# Altium footprint library Intrefaces.PcbLib: 9 footprints
Each footprint in its own frame and in the unit in brackets; x right, y up, seen from the top. Pads: shape width x height; smd on the part's side, far side on the other; paste and mask are expansions set on the pad; w line width, h text height; cw(c..) or ccw(c..) is an arc to the next point about the centre after c.
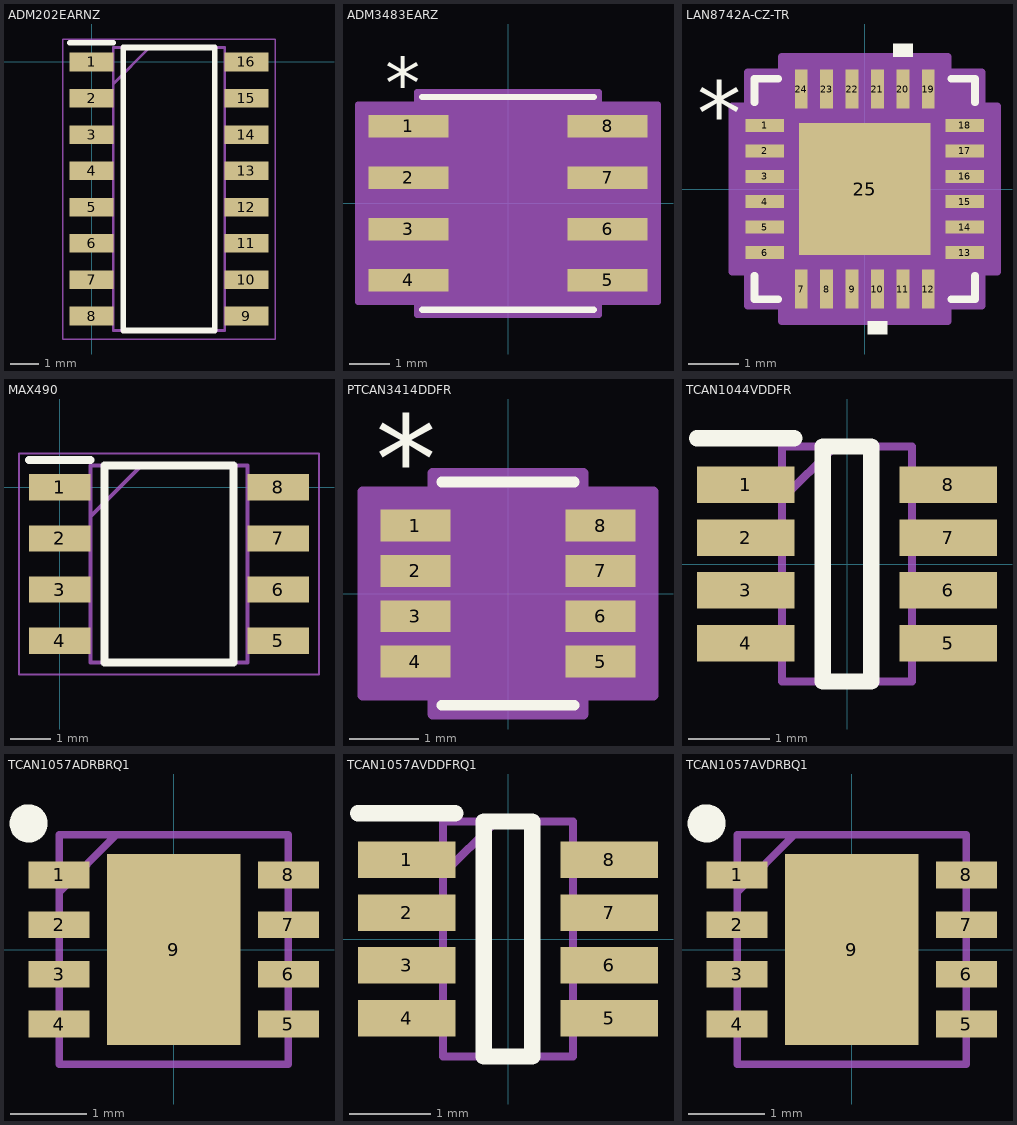
[diagram p0: the footprints below, top view; thin cyan lines are the x and y axes]

## ADM202EARNZ [mm]
pads (16):
  rect 1.525x0.65 smd: 1(0,0) 2(0,-1.27) 3(0,-2.54) 4(0,-3.81) 5(0,-5.08) 6(0,-6.35) 7(0,-7.62) 8(0,-8.89) 9(5.424,-8.89) 10(5.424,-7.62) 11(5.424,-6.35) 12(5.424,-5.08) 13(5.424,-3.81) 14(5.424,-2.54) 15(5.424,-1.27) 16(5.424,0)
Top Overlay:
  lines w0.2: -0.763,0.675 0.762,0.675 ; 1.112,-9.395 4.312,-9.395 4.312,0.505 1.112,0.505 1.112,-9.395
Mechanical 13:
  lines w0.1: 0.762,-0.765 2.032,0.505 ; 0.762,-9.395 4.662,-9.395 4.662,0.505 0.762,0.505 0.762,-9.395
Mechanical 15:
  lines w0.05: -1.013,-9.695 6.437,-9.695 6.437,0.805 -1.013,0.805 -1.013,-9.695
3D body "ADM202EARNZ.stp": height 1.75, standoff 0, extent -0.288,-9.395 5.712,0.505

## ADM3483EARZ [mil]
pads (8):
  rect 78x22 smd paste+0 mask+0: 1(-97,75) 2(-97,25) 3(-97,-25) 4(-97,-75) 5(97,-75) 6(97,-25) 7(97,25) 8(97,75)
Top Overlay:
  lines w6: -83.5,-103.5 83.5,-103.5 ; -83.5,103.5 83.5,103.5
  text "*" at -119.5,92 h50
Mechanical 13:
  lines w1: -12,98.5 ccw(c0,98.5) 12,98.5 ; -122,-85 -78.5,-85 -78.5,-65 -122,-65 -122,-85 ; -122,-35 -78.5,-35 -78.5,-15 -122,-15 -122,-35 ; -122,15 -78.5,15 -78.5,35 -122,35 -122,15 ; -122,65 -78.5,65 -78.5,85 -122,85 -122,65 ; -78.5,-98.5 -78.5,98.5 78.5,98.5 78.5,-98.5 -78.5,-98.5 ; 78.5,-85 122,-85 122,-65 78.5,-65 78.5,-85 ; 78.5,-35 122,-35 122,-15 78.5,-15 78.5,-35 ; 78.5,15 122,15 122,35 78.5,35 78.5,15 ; 78.5,65 122,65 122,85 78.5,85 78.5,65
  text "*" at -76,45.5 h50
Mechanical 15:
  region: -88.5,-96 -146,-96 -146,96 -88.5,96 -88.5,108.5 88.5,108.5 88.5,96 146,96 146,-96 88.5,-96 88.5,-108.5 -88.5,-108.5
  lines w6: -146,-96 -88.5,-96 -88.5,-108.5 88.5,-108.5 88.5,-96 146,-96 146,96 88.5,96 88.5,108.5 -88.5,108.5 -88.5,96 -146,96 -146,-96
3D body "R_8_ADI.step": height 69.09, standoff 0, extent -122.01,-98.5 122.01,98.5

## LAN8742A-CZ-TR [mil]
pads (25):
  rect 30x10 smd paste+0 mask+0: 1(-77.5,49.21) 2(-77.5,29.53) 3(-77.5,9.84) 4(-77.5,-9.84) 5(-77.5,-29.53) 6(-77.5,-49.21) 13(77.5,-49.21) 14(77.5,-29.53) 15(77.5,-9.84) 16(77.5,9.84) 17(77.5,29.53) 18(77.5,49.21)
  rect 10x30 smd paste+0 mask+0: 7(-49.21,-77.5) 8(-29.53,-77.5) 9(-9.84,-77.5) 10(9.84,-77.5) 11(29.53,-77.5) 12(49.21,-77.5) 19(49.21,77.5) 20(29.53,77.5) 21(9.84,77.5) 22(-9.84,77.5) 23(-29.53,77.5) 24(-49.21,77.5)
  rect 102x102 smd paste-51 mask+0: 25(0,0)
Top Overlay:
  region: 37.03,102.5 22.03,102.5 22.03,112.5 37.03,112.5
  region: 17.34,-102.5 2.34,-102.5 2.34,-112.5 17.34,-112.5
  lines w6: -85.5,-67.31 -85.5,-85.5 -67.31,-85.5 ; -85.5,67.31 -85.5,85.5 -67.31,85.5 ; 67.31,-85.5 85.5,-85.5 85.5,-67.31 ; 67.31,85.5 85.5,85.5 85.5,67.31
  text "*" at -130,34.06 h50
Top Paste:
  region: 47.06,-3.94 3.94,-3.94 3.94,-47.06 47.06,-47.06
  region: 47.06,47.06 3.94,47.06 3.94,3.94 47.06,3.94
  region: -3.94,-3.94 -47.06,-3.94 -47.06,-47.06 -3.94,-47.06
  region: -3.94,47.06 -47.06,47.06 -47.06,3.94 -3.94,3.94
Mechanical 13:
  lines w1: -80.5,30.5 -30.5,80.5 ; -80.5,-80.5 -80.5,80.5 80.5,80.5 80.5,-80.5 -80.5,-80.5 ; -80.5,-55.21 -80.5,-43.21 -80.5,-55.21 ; -80.5,-35.53 -80.5,-23.53 -80.5,-35.53 ; -80.5,-15.84 -80.5,-3.84 -80.5,-15.84 ; -80.5,3.84 -80.5,15.84 -80.5,3.84 ; -80.5,23.53 -80.5,35.53 -80.5,23.53 ; -80.5,43.21 -80.5,55.21 -80.5,43.21 ; -55.21,-80.5 -43.21,-80.5 -55.21,-80.5 ; -55.21,80.5 -43.21,80.5 -55.21,80.5 ; -35.53,-80.5 -23.53,-80.5 -35.53,-80.5 ; -35.53,80.5 -23.53,80.5 -35.53,80.5 ; -15.84,-80.5 -3.84,-80.5 -15.84,-80.5 ; -15.84,80.5 -3.84,80.5 -15.84,80.5 ; 3.84,-80.5 15.84,-80.5 3.84,-80.5 ; 3.84,80.5 15.84,80.5 3.84,80.5 ; 23.53,-80.5 35.53,-80.5 23.53,-80.5 ; 23.53,80.5 35.53,80.5 23.53,80.5 ; 43.21,-80.5 55.21,-80.5 43.21,-80.5 ; 43.21,80.5 55.21,80.5 43.21,80.5 ; 80.5,-55.21 80.5,-43.21 80.5,-55.21 ; 80.5,-35.53 80.5,-23.53 80.5,-35.53 ; 80.5,-15.84 80.5,-3.84 80.5,-15.84 ; 80.5,3.84 80.5,15.84 80.5,3.84 ; 80.5,23.53 80.5,35.53 80.5,23.53 ; 80.5,43.21 80.5,55.21 80.5,43.21
  text "*" at -75,34.06 h50
Mechanical 15:
  region: -64.21,-90.5 -90.5,-90.5 -90.5,-64.21 -102.5,-64.21 -102.5,64.21 -90.5,64.21 -90.5,90.5 -64.21,90.5 -64.21,102.5 64.21,102.5 64.21,90.5 90.5,90.5 90.5,64.21 102.5,64.21 102.5,-64.21 90.5,-64.21 90.5,-90.5 64.21,-90.5 64.21,-102.5 -64.21,-102.5
  lines w6: -102.5,-64.21 -102.5,64.21 -90.5,64.21 -90.5,90.5 -64.21,90.5 -64.21,102.5 64.21,102.5 64.21,90.5 90.5,90.5 90.5,64.21 102.5,64.21 102.5,-64.21 90.5,-64.21 90.5,-90.5 64.21,-90.5 64.21,-102.5 -64.21,-102.5 -64.21,-90.5 -90.5,-90.5 -90.5,-64.21 -102.5,-64.21
3D body "SQFN24_4X4MC_MCH.step": height 65.12, standoff 0, extent -80.51,-80.51 80.51,80.51

## MAX490 [mm]
pads (8):
  rect 1.525x0.65 smd: 1(0,0) 2(0,-1.27) 3(0,-2.54) 4(0,-3.81) 5(5.424,-3.81) 6(5.424,-2.54) 7(5.424,-1.27) 8(5.424,0)
Top Overlay:
  lines w0.2: -0.763,0.675 0.762,0.675 ; 1.112,-4.355 1.112,0.545 4.312,0.545 4.312,-4.355 1.112,-4.355
Mechanical 13:
  lines w0.1: 0.762,-0.725 2.032,0.545 ; 0.762,-4.355 0.762,0.545 4.662,0.545 4.662,-4.355 0.762,-4.355
Mechanical 15:
  lines w0.05: -1.013,-4.655 -1.013,0.845 6.437,0.845 6.437,-4.655 -1.013,-4.655
3D body "NE555DR.stp": height 1.75, standoff 0, extent -0.288,-4.355 5.712,0.545

## PTCAN3414DDFR [mil]
pads (8):
  rect 39.5x18 smd paste+0 mask+0: 1(-52.25,38.39) 2(-52.25,12.8) 3(-52.25,-12.8) 4(-52.25,-38.39) 5(52.25,-38.39) 6(52.25,-12.8) 7(52.25,12.8) 8(52.25,38.39)
Top Overlay:
  lines w6: -37.5,-63 37.5,-63 ; -37.5,63 37.5,63
  text "*" at -74.75,51.39 h50
Mechanical 13:
  lines w0: -12,58 ccw(c0,58) 12,58
  lines w1: -58,-46.39 -58,-30.39 -32.5,-30.39 -32.5,-46.39 -58,-46.39 ; -58,-20.8 -58,-4.8 -32.5,-4.8 -32.5,-20.8 -58,-20.8 ; -58,4.8 -58,20.8 -32.5,20.8 -32.5,4.8 -58,4.8 ; -58,30.39 -58,46.39 -32.5,46.39 -32.5,30.39 -58,30.39 ; -32.5,-58 32.5,-58 32.5,58 -32.5,58 -32.5,-58 ; 32.5,-46.39 32.5,-30.39 58,-30.39 58,-46.39 32.5,-46.39 ; 32.5,-20.8 32.5,-4.8 58,-4.8 58,-20.8 32.5,-20.8 ; 32.5,4.8 32.5,20.8 58,20.8 58,4.8 32.5,4.8 ; 32.5,30.39 32.5,46.39 58,46.39 58,30.39 32.5,30.39
  text "*" at -30,5 h50
Mechanical 15:
  region: -42.5,-57.39 -82,-57.39 -82,57.39 -42.5,57.39 -42.5,68 42.5,68 42.5,57.39 82,57.39 82,-57.39 42.5,-57.39 42.5,-68 -42.5,-68
  lines w6: -82,-57.39 -82,57.39 -42.5,57.39 -42.5,68 42.5,68 42.5,57.39 82,57.39 82,-57.39 42.5,-57.39 42.5,-68 -42.5,-68 -42.5,-57.39 -82,-57.39
3D body "SOT-23-THIN-8_DDF_TEX.step": height 43.11, standoff 0, extent -57.99,-57.99 57.99,57.99

## TCAN1044VDDFR [mm]
pads (8):
  rect 1.2x0.45 smd: 1(-1.25,0.975) 2(-1.25,0.325) 3(-1.25,-0.325) 4(-1.25,-0.975) 5(1.25,-0.975) 6(1.25,-0.325) 7(1.25,0.325) 8(1.25,0.975)
Top Overlay:
  lines w0.2: -1.85,1.55 -0.65,1.55 ; -0.3,-1.45 0.3,-1.45 0.3,1.45 -0.3,1.45 -0.3,-1.45
Mechanical 15:
  lines w0.1: -0.8,0.8 -0.15,1.45 ; -0.8,-1.45 0.8,-1.45 0.8,1.45 -0.8,1.45 -0.8,-1.45
3D body "TCAN1044VDDFR.stp": height 0.9, standoff 0, extent -1.41,-1.45 1.41,1.45

## TCAN1057ADRBRQ1 [mm]
pads (9):
  rect 0.8x0.35 smd: 1(-1.5,0.975) 2(-1.5,0.325) 3(-1.5,-0.325) 4(-1.5,-0.975) 5(1.5,-0.975) 6(1.5,-0.325) 7(1.5,0.325) 8(1.5,0.975)
  rect 1.75x2.5 smd: 9(0,0)
Top Overlay:
  circle w0.25: c-1.9,1.65 r0.125
Mechanical 15:
  lines w0.1: -1.5,0.75 -0.75,1.5 ; -1.5,-1.5 -1.5,1.5 1.5,1.5 1.5,-1.5 -1.5,-1.5
3D body "TCAN1057ADRBRQ1.stp": height 1, standoff 0, extent -1.5,-1.5 1.5,1.5

## TCAN1057AVDDFRQ1 [mm]
pads (8):
  rect 1.2x0.45 smd: 1(-1.25,0.975) 2(-1.25,0.325) 3(-1.25,-0.325) 4(-1.25,-0.975) 5(1.25,-0.975) 6(1.25,-0.325) 7(1.25,0.325) 8(1.25,0.975)
Top Overlay:
  lines w0.2: -1.85,1.55 -0.65,1.55 ; -0.3,-1.45 -0.3,1.45 0.3,1.45 0.3,-1.45 -0.3,-1.45
Mechanical 15:
  lines w0.1: -0.8,0.8 -0.15,1.45 ; -0.8,-1.45 -0.8,1.45 0.8,1.45 0.8,-1.45 -0.8,-1.45
3D body "TCAN1057AVDDFRQ1.stp": height 0.9, standoff 0, extent -1.41,-1.45 1.41,1.45

## TCAN1057AVDRBQ1 [mm]
pads (9):
  rect 0.8x0.35 smd: 1(-1.5,0.975) 2(-1.5,0.325) 3(-1.5,-0.325) 4(-1.5,-0.975) 5(1.5,-0.975) 6(1.5,-0.325) 7(1.5,0.325) 8(1.5,0.975)
  rect 1.75x2.5 smd: 9(0,0)
Top Overlay:
  circle w0.25: c-1.9,1.65 r0.125
Mechanical 15:
  lines w0.1: -1.5,0.75 -0.75,1.5 ; -1.5,-1.5 -1.5,1.5 1.5,1.5 1.5,-1.5 -1.5,-1.5
3D body "TCAN1057AVDRBRQ1.stp": height 1, standoff 0, extent -1.5,-1.5 1.5,1.5